# Altium footprint library con-molex-micro-fit-3_0.PCBLIB: 194 footprints (part 10 of 13)
Each footprint in its own frame and in the unit in brackets; x right, y up, seen from the top. Pads: shape width x height; smd on the part's side, far side on the other; paste and mask are expansions set on the pad; w line width, h text height; cw(c..) or ccw(c..) is an arc to the next point about the centre after c.
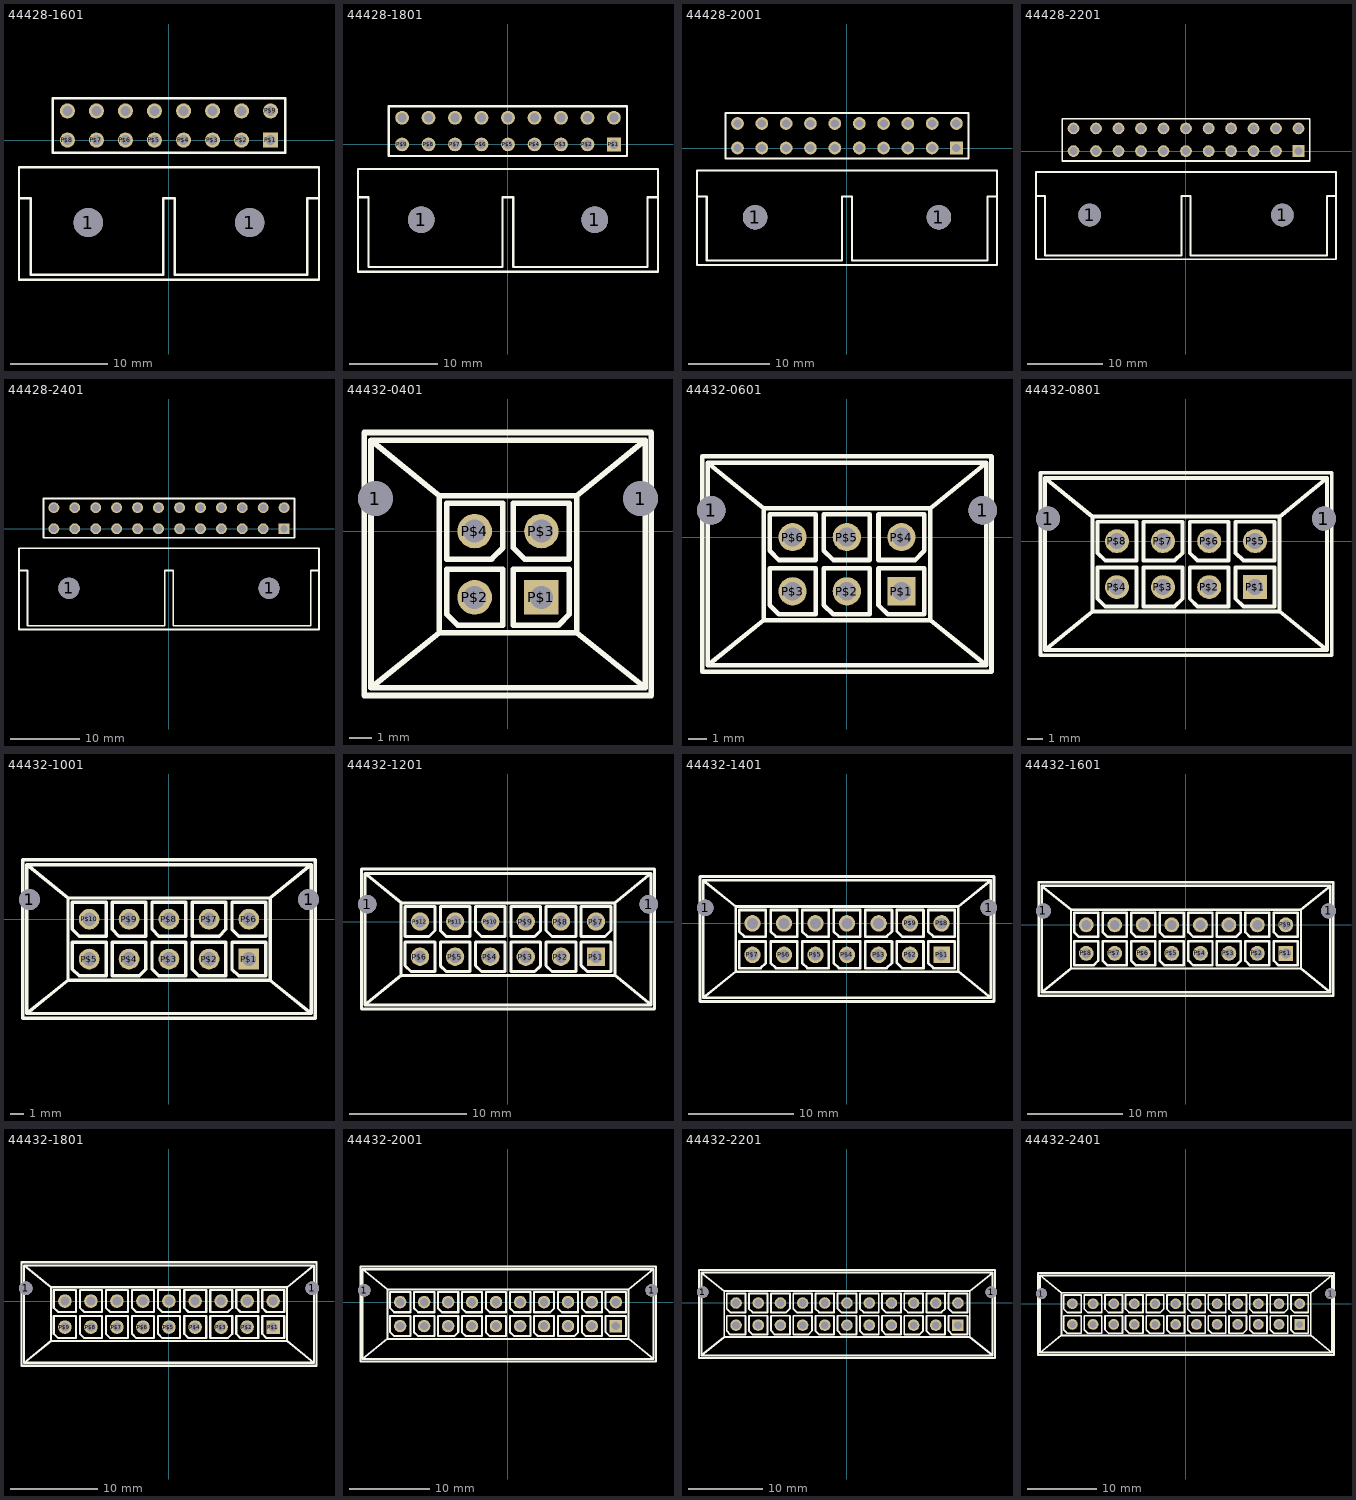
[diagram p9: the footprints below, top view; thin cyan lines are the x and y axes]

## 44428-1601 [mil]
pads (18):
  round 119 hole 119: 1(-328.35,-335.83) 1(329,-335.83)
  rect 61.5x61.5 hole 41: P$1(414,0)
  round 61.5 hole 41: P$2(296,0) P$3(178,0) P$4(60,0) P$5(-59.06,0) P$6(-177.17,0) P$7(-295.28,0) P$8(-413.39,0) P$9(414,119) P$10(296,119) P$11(178,119) P$12(60,119) P$13(-59.06,119) P$14(-177.17,119) P$15(-295.28,119) P$16(-413.39,119)
Top Overlay:
  lines w10: -610.24,-236.22 -610.24,-110.24 611,-110.24 611,-236.22 ; -610.24,-236.22 -610.24,-568.11 611,-568.11 611,-236.22 ; -610.24,-236.22 -562.99,-236.22 -562.99,-547.24 -23.62,-547.24 -23.62,-236.22 24,-236.22 24,-547.24 563,-547.24 563,-236.22 611,-236.22 ; -472.44,-51.18 473,-51.18 473,170 -472.44,170 -472.44,-51.18

## 44428-1801 [mil]
pads (20):
  round 119 hole 119: 1(-387.4,-335.83) 1(388,-335.83)
  rect 61.5x61.5 hole 41: P$1(473,0)
  round 61.5 hole 41: P$2(355,0) P$3(237,0) P$4(119,0) P$5(0,0) P$6(-118.11,0) P$7(-236.22,0) P$8(-354.33,0) P$9(-472.44,0) P$10(473,119) P$11(355,119) P$12(237,119) P$13(119,119) P$14(0,119) P$15(-118.11,119) P$16(-236.22,119) P$17(-354.33,119) P$18(-472.44,119)
Top Overlay:
  lines w10: -669.29,-236.22 -669.29,-110.24 670,-110.24 670,-236.22 ; -669.29,-236.22 -669.29,-568.11 670,-568.11 670,-236.22 ; -669.29,-236.22 -622.05,-236.22 -622.05,-547.24 -23.62,-547.24 -23.62,-236.22 24,-236.22 24,-547.24 623,-547.24 623,-236.22 670,-236.22 ; -531.5,-51.18 532,-51.18 532,170 -531.5,170 -531.5,-51.18

## 44428-2001 [mil]
pads (22):
  round 119 hole 119: 1(-446.46,-335.83) 1(447,-335.83)
  rect 61.5x61.5 hole 41: P$1(532,0)
  round 61.5 hole 41: P$2(414,0) P$3(296,0) P$4(178,0) P$5(60,0) P$6(-59.06,0) P$7(-177.17,0) P$8(-295.28,0) P$9(-413.39,0) P$10(-531.5,0) P$11(532,119) P$12(414,119) P$13(296,119) P$14(178,119) P$15(60,119) P$16(-59.06,119) P$17(-177.17,119) P$18(-295.28,119) P$19(-413.39,119) P$20(-531.5,119)
Top Overlay:
  lines w10: -728.35,-236.22 -728.35,-110.24 729,-110.24 729,-236.22 ; -728.35,-236.22 -728.35,-568.11 729,-568.11 729,-236.22 ; -728.35,-236.22 -681.1,-236.22 -681.1,-547.24 -23.62,-547.24 -23.62,-236.22 24,-236.22 24,-547.24 682,-547.24 682,-236.22 729,-236.22 ; -590.55,-51.18 591,-51.18 591,170 -590.55,170 -590.55,-51.18

## 44428-2201 [mil]
pads (24):
  round 119 hole 119: 1(-505.51,-335.83) 1(506,-335.83)
  rect 61.5x61.5 hole 41: P$1(591,0)
  round 61.5 hole 41: P$2(473,0) P$3(355,0) P$4(237,0) P$5(119,0) P$6(0,0) P$7(-118.11,0) P$8(-236.22,0) P$9(-354.33,0) P$10(-472.44,0) P$11(-590.55,0) P$12(591,119) P$13(473,119) P$14(355,119) P$15(237,119) P$16(119,119) P$17(0,119) P$18(-118.11,119) P$19(-236.22,119) P$20(-354.33,119) P$21(-472.44,119) P$22(-590.55,119)
Top Overlay:
  lines w10: -787.4,-236.22 -787.4,-110.24 788,-110.24 788,-236.22 ; -787.4,-236.22 -787.4,-568.11 788,-568.11 788,-236.22 ; -787.4,-236.22 -740.16,-236.22 -740.16,-547.24 -23.62,-547.24 -23.62,-236.22 24,-236.22 24,-547.24 741,-547.24 741,-236.22 788,-236.22 ; -649.61,-51.18 650,-51.18 650,170 -649.61,170 -649.61,-51.18

## 44428-2401 [mil]
pads (26):
  round 119 hole 119: 1(-564.57,-335.83) 1(565,-335.83)
  rect 61.5x61.5 hole 41: P$1(650,0)
  round 61.5 hole 41: P$2(532,0) P$3(414,0) P$4(296,0) P$5(178,0) P$6(60,0) P$7(-59.06,0) P$8(-177.17,0) P$9(-295.28,0) P$10(-413.39,0) P$11(-531.5,0) P$12(-649.61,0) P$13(650,119) P$14(532,119) P$15(414,119) P$16(296,119) P$17(178,119) P$18(60,119) P$19(-59.06,119) P$20(-177.17,119) P$21(-295.28,119) P$22(-413.39,119) P$23(-531.5,119) P$24(-649.61,119)
Top Overlay:
  lines w10: -846.46,-236.22 -846.46,-110.24 847,-110.24 847,-236.22 ; -846.46,-236.22 -846.46,-568.11 847,-568.11 847,-236.22 ; -846.46,-236.22 -799.21,-236.22 -799.21,-547.24 -23.62,-547.24 -23.62,-236.22 24,-236.22 24,-547.24 800,-547.24 800,-236.22 847,-236.22 ; -708.66,-51.18 709,-51.18 709,170 -708.66,170 -708.66,-51.18

## 44432-0401 [mil]
pads (6):
  round 62 hole 62: 1(-236.22,58) 1(237,58)
  rect 61.5x61.5 hole 41: P$1(60,-118.11)
  round 61.5 hole 41: P$2(-59.06,-118.11) P$3(60,0) P$4(-59.06,0)
Top Overlay:
  lines w10: -244.09,-279.53 245,-279.53 ; -244.09,-279.53 -244.09,162 ; -244.09,-279.53 -122.05,-181.1 ; -244.09,162 245,162 ; -244.09,162 -122.05,63 ; -122.05,-181.1 -122.05,63 ; -122.05,-181.1 123,-181.1 ; -122.05,63 123,63 ; 123,-181.1 123,63 ; 123,-181.1 245,-279.53 ; 123,63 245,162 ; 245,-279.53 245,162 ; -255.91,-293.31 256,-293.31 256,176 -255.91,176 -255.91,-293.31 ; -109.06,-148.11 -109.06,-68.11 -9.06,-68.11 -9.06,-168.11 -89.06,-168.11 -109.06,-148.11 ; -109.06,-50 -109.06,50 -9.06,50 -9.06,-30 -29.06,-50 -109.06,-50 ; 10,-168.11 10,-68.11 110,-68.11 110,-148.11 90,-168.11 10,-168.11 ; 10,-30 10,50 110,50 110,-50 30,-50 10,-30

## 44432-0601 [mil]
pads (8):
  round 62 hole 62: 1(-295.28,58) 1(296,58)
  rect 61.5x61.5 hole 41: P$1(119,-118.11)
  round 61.5 hole 41: P$2(0,-118.11) P$3(-118.11,-118.11) P$4(119,0) P$5(0,0) P$6(-118.11,0)
Top Overlay:
  lines w10: -303.15,-279.53 304,-279.53 ; -303.15,-279.53 -303.15,162 ; -303.15,-279.53 -181.1,-181.1 ; -303.15,162 304,162 ; -303.15,162 -181.1,63 ; -181.1,-181.1 -181.1,63 ; -181.1,-181.1 182,-181.1 ; -181.1,63 182,63 ; 182,-181.1 182,63 ; 182,-181.1 304,-279.53 ; 182,63 304,162 ; 304,-279.53 304,162 ; -314.96,-293.31 315,-293.31 315,176 -314.96,176 -314.96,-293.31 ; -168.11,-148.11 -168.11,-68.11 -68.11,-68.11 -68.11,-168.11 -148.11,-168.11 -168.11,-148.11 ; -168.11,-30 -168.11,50 -68.11,50 -68.11,-50 -148.11,-50 -168.11,-30 ; -50,-148.11 -50,-68.11 50,-68.11 50,-168.11 -30,-168.11 -50,-148.11 ; -50,-30 -50,50 50,50 50,-50 -30,-50 -50,-30 ; 69,-148.11 69,-68.11 169,-68.11 169,-168.11 89,-168.11 69,-148.11 ; 69,-50 69,50 169,50 169,-30 149,-50 69,-50

## 44432-0801 [mil]
pads (10):
  round 62 hole 62: 1(-354.33,58) 1(355,58)
  rect 61.5x61.5 hole 41: P$1(178,-118.11)
  round 61.5 hole 41: P$2(60,-118.11) P$3(-59.06,-118.11) P$4(-177.17,-118.11) P$5(178,0) P$6(60,0) P$7(-59.06,0) P$8(-177.17,0)
Top Overlay:
  lines w10: -362.2,-279.53 363,-279.53 ; -362.2,-279.53 -362.2,162 ; -362.2,-279.53 -240.16,-181.1 ; -362.2,162 363,162 ; -362.2,162 -240.16,63 ; -240.16,-181.1 -240.16,63 ; -240.16,-181.1 241,-181.1 ; -240.16,63 241,63 ; 241,-181.1 241,63 ; 241,-181.1 363,-279.53 ; 241,63 363,162 ; 363,-279.53 363,162 ; -374.02,-293.31 375,-293.31 375,176 -374.02,176 -374.02,-293.31 ; -227.17,-148.11 -227.17,-68.11 -127.17,-68.11 -127.17,-168.11 -207.17,-168.11 -227.17,-148.11 ; -227.17,-30 -227.17,50 -127.17,50 -127.17,-50 -207.17,-50 -227.17,-30 ; -109.06,-168.11 -109.06,-68.11 -9.06,-68.11 -9.06,-148.11 -29.06,-168.11 -109.06,-168.11 ; -109.06,-50 -109.06,50 -9.06,50 -9.06,-30 -29.06,-50 -109.06,-50 ; 10,-148.11 10,-68.11 110,-68.11 110,-168.11 30,-168.11 10,-148.11 ; 10,-30 10,50 110,50 110,-50 30,-50 10,-30 ; 128,-148.11 128,-68.11 228,-68.11 228,-168.11 148,-168.11 128,-148.11 ; 128,-30 128,50 228,50 228,-50 148,-50 128,-30

## 44432-1001 [mil]
pads (12):
  round 62 hole 62: 1(-413.39,58) 1(414,58)
  rect 61.5x61.5 hole 41: P$1(237,-118.11)
  round 61.5 hole 41: P$2(119,-118.11) P$3(0,-118.11) P$4(-118.11,-118.11) P$5(-236.22,-118.11) P$6(237,0) P$7(119,0) P$8(0,0) P$9(-118.11,0) P$10(-236.22,0)
Top Overlay:
  lines w10: -421.26,-279.53 422,-279.53 ; -421.26,-279.53 -421.26,162 ; -421.26,-279.53 -299.21,-181.1 ; -421.26,162 422,162 ; -421.26,162 -299.21,63 ; -299.21,-181.1 -299.21,63 ; -299.21,-181.1 300,-181.1 ; -299.21,63 300,63 ; 300,-181.1 300,63 ; 300,-181.1 422,-279.53 ; 300,63 422,162 ; 422,-279.53 422,162 ; -433.07,-293.31 434,-293.31 434,176 -433.07,176 -433.07,-293.31 ; -286.22,-148.11 -286.22,-68.11 -186.22,-68.11 -186.22,-168.11 -266.22,-168.11 -286.22,-148.11 ; -286.22,-30 -286.22,50 -186.22,50 -186.22,-50 -266.22,-50 -286.22,-30 ; -168.11,-168.11 -168.11,-68.11 -68.11,-68.11 -68.11,-148.11 -88.11,-168.11 -168.11,-168.11 ; -168.11,-30 -168.11,50 -68.11,50 -68.11,-50 -148.11,-50 -168.11,-30 ; -50,-148.11 -50,-68.11 50,-68.11 50,-168.11 -30,-168.11 -50,-148.11 ; -50,-30 -50,50 50,50 50,-50 -30,-50 -50,-30 ; 69,-148.11 69,-68.11 169,-68.11 169,-168.11 89,-168.11 69,-148.11 ; 69,-50 69,50 169,50 169,-30 149,-50 69,-50 ; 187,-148.11 187,-68.11 287,-68.11 287,-168.11 207,-168.11 187,-148.11 ; 187,-30 187,50 287,50 287,-50 207,-50 187,-30

## 44432-1201 [mil]
pads (14):
  round 62 hole 62: 1(-472.44,58) 1(473,58)
  rect 61.5x61.5 hole 41: P$1(296,-118.11)
  round 61.5 hole 41: P$2(178,-118.11) P$3(60,-118.11) P$4(-59.06,-118.11) P$5(-177.17,-118.11) P$6(-295.28,-118.11) P$7(296,0) P$8(178,0) P$9(60,0) P$10(-59.06,0) P$11(-177.17,0) P$12(-295.28,0)
Top Overlay:
  lines w10: -480.31,-279.53 481,-279.53 ; -480.31,-279.53 -480.31,162 ; -480.31,-279.53 -358.27,-181.1 ; -480.31,162 481,162 ; -480.31,162 -358.27,63 ; -358.27,-181.1 -358.27,63 ; -358.27,-181.1 359,-181.1 ; -358.27,63 359,63 ; 359,-181.1 359,63 ; 359,-181.1 481,-279.53 ; 359,63 481,162 ; 481,-279.53 481,162 ; -492.13,-293.31 493,-293.31 493,176 -492.13,176 -492.13,-293.31 ; -345.28,-148.11 -345.28,-68.11 -245.28,-68.11 -245.28,-168.11 -325.28,-168.11 -345.28,-148.11 ; -345.28,-50 -345.28,50 -245.28,50 -245.28,-30 -265.28,-50 -345.28,-50 ; -227.17,-148.11 -227.17,-68.11 -127.17,-68.11 -127.17,-168.11 -207.17,-168.11 -227.17,-148.11 ; -227.17,-30 -227.17,50 -127.17,50 -127.17,-50 -207.17,-50 -227.17,-30 ; -109.06,-148.11 -109.06,-68.11 -9.06,-68.11 -9.06,-168.11 -89.06,-168.11 -109.06,-148.11 ; -109.06,-30 -109.06,50 -9.06,50 -9.06,-50 -89.06,-50 -109.06,-30 ; 10,-168.11 10,-68.11 110,-68.11 110,-148.11 90,-168.11 10,-168.11 ; 10,-50 10,50 110,50 110,-30 90,-50 10,-50 ; 128,-148.11 128,-68.11 228,-68.11 228,-168.11 148,-168.11 128,-148.11 ; 128,-30 128,50 228,50 228,-50 148,-50 128,-30 ; 246,-148.11 246,-68.11 346,-68.11 346,-168.11 266,-168.11 246,-148.11 ; 246,-50 246,50 346,50 346,-30 326,-50 246,-50

## 44432-1401 [mil]
pads (16):
  round 62 hole 62: 1(-531.5,58) 1(532,58)
  rect 61.5x61.5 hole 41: P$1(355,-118.11)
  round 61.5 hole 41: P$2(237,-118.11) P$3(119,-118.11) P$4(0,-118.11) P$5(-118.11,-118.11) P$6(-236.22,-118.11) P$7(-354.33,-118.11) P$8(355,0) P$9(237,0) P$10(119,0) P$11(0,0) P$12(-118.11,0) P$13(-236.22,0) P$14(-354.33,0)
Top Overlay:
  lines w10: -539.37,-279.53 540,-279.53 ; -539.37,-279.53 -539.37,162 ; -539.37,-279.53 -417.32,-181.1 ; -539.37,162 540,162 ; -539.37,162 -417.32,63 ; -417.32,-181.1 -417.32,63 ; -417.32,-181.1 418,-181.1 ; -417.32,63 418,63 ; 418,-181.1 418,63 ; 418,-181.1 540,-279.53 ; 418,63 540,162 ; 540,-279.53 540,162 ; -551.18,-293.31 552,-293.31 552,176 -551.18,176 -551.18,-293.31 ; -404.33,-168.11 -404.33,-68.11 -304.33,-68.11 -304.33,-148.11 -324.33,-168.11 -404.33,-168.11 ; -404.33,-30 -404.33,50 -304.33,50 -304.33,-50 -384.33,-50 -404.33,-30 ; -286.22,-148.11 -286.22,-68.11 -186.22,-68.11 -186.22,-168.11 -266.22,-168.11 -286.22,-148.11 ; -286.22,-30 -286.22,50 -186.22,50 -186.22,-50 -266.22,-50 -286.22,-30 ; -168.11,-148.11 -168.11,-68.11 -68.11,-68.11 -68.11,-168.11 -148.11,-168.11 -168.11,-148.11 ; -168.11,-30 -168.11,50 -68.11,50 -68.11,-50 -148.11,-50 -168.11,-30 ; -50,-148.11 -50,-68.11 50,-68.11 50,-168.11 -30,-168.11 -50,-148.11 ; -50,-30 -50,50 50,50 50,-50 -30,-50 -50,-30 ; 69,-168.11 69,-68.11 169,-68.11 169,-148.11 149,-168.11 69,-168.11 ; 69,-50 69,50 169,50 169,-30 149,-50 69,-50 ; 187,-148.11 187,-68.11 287,-68.11 287,-168.11 207,-168.11 187,-148.11 ; 187,-30 187,50 287,50 287,-50 207,-50 187,-30 ; 305,-148.11 305,-68.11 405,-68.11 405,-168.11 325,-168.11 305,-148.11 ; 305,-30 305,50 405,50 405,-50 325,-50 305,-30

## 44432-1601 [mil]
pads (18):
  round 62 hole 62: 1(-590.55,58) 1(591,58)
  rect 61.5x61.5 hole 41: P$1(414,-118.11)
  round 61.5 hole 41: P$2(296,-118.11) P$3(178,-118.11) P$4(60,-118.11) P$5(-59.06,-118.11) P$6(-177.17,-118.11) P$7(-295.28,-118.11) P$8(-413.39,-118.11) P$9(414,0) P$10(296,0) P$11(178,0) P$12(60,0) P$13(-59.06,0) P$14(-177.17,0) P$15(-295.28,0) P$16(-413.39,0)
Top Overlay:
  lines w10: -598.43,-279.53 599,-279.53 ; -598.43,-279.53 -598.43,162 ; -598.43,-279.53 -476.38,-181.1 ; -598.43,162 599,162 ; -598.43,162 -476.38,63 ; -476.38,-181.1 -476.38,63 ; -476.38,-181.1 477,-181.1 ; -476.38,63 477,63 ; 477,-181.1 477,63 ; 477,-181.1 599,-279.53 ; 477,63 599,162 ; 599,-279.53 599,162 ; -610.24,-293.31 611,-293.31 611,176 -610.24,176 -610.24,-293.31 ; -463.39,-168.11 -463.39,-68.11 -363.39,-68.11 -363.39,-148.11 -383.39,-168.11 -463.39,-168.11 ; -463.39,-30 -463.39,50 -363.39,50 -363.39,-50 -443.39,-50 -463.39,-30 ; -345.28,-148.11 -345.28,-68.11 -245.28,-68.11 -245.28,-168.11 -325.28,-168.11 -345.28,-148.11 ; -345.28,-30 -345.28,50 -245.28,50 -245.28,-50 -325.28,-50 -345.28,-30 ; -227.17,-148.11 -227.17,-68.11 -127.17,-68.11 -127.17,-168.11 -207.17,-168.11 -227.17,-148.11 ; -227.17,-30 -227.17,50 -127.17,50 -127.17,-50 -207.17,-50 -227.17,-30 ; -109.06,-148.11 -109.06,-68.11 -9.06,-68.11 -9.06,-168.11 -89.06,-168.11 -109.06,-148.11 ; -109.06,-30 -109.06,50 -9.06,50 -9.06,-50 -89.06,-50 -109.06,-30 ; 10,-148.11 10,-68.11 110,-68.11 110,-168.11 30,-168.11 10,-148.11 ; 10,-30 10,50 110,50 110,-50 30,-50 10,-30 ; 128,-168.11 128,-68.11 228,-68.11 228,-148.11 208,-168.11 128,-168.11 ; 128,-50 128,50 228,50 228,-30 208,-50 128,-50 ; 246,-148.11 246,-68.11 346,-68.11 346,-168.11 266,-168.11 246,-148.11 ; 246,-30 246,50 346,50 346,-50 266,-50 246,-30 ; 364,-148.11 364,-68.11 464,-68.11 464,-168.11 384,-168.11 364,-148.11 ; 364,-30 364,50 464,50 464,-50 384,-50 364,-30

## 44432-1801 [mil]
pads (20):
  round 62 hole 62: 1(-649.61,58) 1(650,58)
  rect 61.5x61.5 hole 41: P$1(473,-118.11)
  round 61.5 hole 41: P$2(355,-118.11) P$3(237,-118.11) P$4(119,-118.11) P$5(0,-118.11) P$6(-118.11,-118.11) P$7(-236.22,-118.11) P$8(-354.33,-118.11) P$9(-472.44,-118.11) P$10(473,0) P$11(355,0) P$12(237,0) P$13(119,0) P$14(0,0) P$15(-118.11,0) P$16(-236.22,0) P$17(-354.33,0) P$18(-472.44,0)
Top Overlay:
  lines w10: -657.48,-279.53 658,-279.53 ; -657.48,-279.53 -657.48,162 ; -657.48,-279.53 -535.43,-181.1 ; -657.48,162 658,162 ; -657.48,162 -535.43,63 ; -535.43,-181.1 -535.43,63 ; -535.43,-181.1 536,-181.1 ; -535.43,63 536,63 ; 536,-181.1 536,63 ; 536,-181.1 658,-279.53 ; 536,63 658,162 ; 658,-279.53 658,162 ; -669.29,-293.31 670,-293.31 670,176 -669.29,176 -669.29,-293.31 ; -522.44,-148.11 -522.44,-68.11 -422.44,-68.11 -422.44,-168.11 -502.44,-168.11 -522.44,-148.11 ; -522.44,-30 -522.44,50 -422.44,50 -422.44,-50 -502.44,-50 -522.44,-30 ; -404.33,-148.11 -404.33,-68.11 -304.33,-68.11 -304.33,-168.11 -384.33,-168.11 -404.33,-148.11 ; -404.33,-30 -404.33,50 -304.33,50 -304.33,-50 -384.33,-50 -404.33,-30 ; -286.22,-148.11 -286.22,-68.11 -186.22,-68.11 -186.22,-168.11 -266.22,-168.11 -286.22,-148.11 ; -286.22,-30 -286.22,50 -186.22,50 -186.22,-50 -266.22,-50 -286.22,-30 ; -168.11,-148.11 -168.11,-68.11 -68.11,-68.11 -68.11,-168.11 -148.11,-168.11 -168.11,-148.11 ; -168.11,-30 -168.11,50 -68.11,50 -68.11,-50 -148.11,-50 -168.11,-30 ; -50,-148.11 -50,-68.11 50,-68.11 50,-168.11 -30,-168.11 -50,-148.11 ; -50,-30 -50,50 50,50 50,-50 -30,-50 -50,-30 ; 69,-148.11 69,-68.11 169,-68.11 169,-168.11 89,-168.11 69,-148.11 ; 69,-30 69,50 169,50 169,-50 89,-50 69,-30 ; 187,-168.11 187,-68.11 287,-68.11 287,-148.11 267,-168.11 187,-168.11 ; 187,-50 187,50 287,50 287,-30 267,-50 187,-50 ; 305,-148.11 305,-68.11 405,-68.11 405,-168.11 325,-168.11 305,-148.11 ; 305,-30 305,50 405,50 405,-50 325,-50 305,-30 ; 423,-148.11 423,-68.11 523,-68.11 523,-168.11 443,-168.11 423,-148.11 ; 423,-30 423,50 523,50 523,-50 443,-50 423,-30

## 44432-2001 [mil]
pads (22):
  round 62 hole 62: 1(-708.66,58) 1(709,58)
  rect 61.5x61.5 hole 41: P$1(532,-118.11)
  round 61.5 hole 41: P$2(414,-118.11) P$3(296,-118.11) P$4(178,-118.11) P$5(60,-118.11) P$6(-59.06,-118.11) P$7(-177.17,-118.11) P$8(-295.28,-118.11) P$9(-413.39,-118.11) P$10(-531.5,-118.11) P$11(532,0) P$12(414,0) P$13(296,0) P$14(178,0) P$15(60,0) P$16(-59.06,0) P$17(-177.17,0) P$18(-295.28,0) P$19(-413.39,0) P$20(-531.5,0)
Top Overlay:
  lines w10: -716.54,-279.53 717,-279.53 ; -716.54,-279.53 -716.54,162 ; -716.54,-279.53 -594.49,-181.1 ; -716.54,162 717,162 ; -716.54,162 -594.49,63 ; -594.49,-181.1 -594.49,63 ; -594.49,-181.1 595,-181.1 ; -594.49,63 595,63 ; 595,-181.1 595,63 ; 595,-181.1 717,-279.53 ; 595,63 717,162 ; 717,-279.53 717,162 ; -728.35,-293.31 729,-293.31 729,176 -728.35,176 -728.35,-293.31 ; -581.5,-148.11 -581.5,-68.11 -481.5,-68.11 -481.5,-168.11 -561.5,-168.11 -581.5,-148.11 ; -581.5,-30 -581.5,50 -481.5,50 -481.5,-50 -561.5,-50 -581.5,-30 ; -463.39,-148.11 -463.39,-68.11 -363.39,-68.11 -363.39,-168.11 -443.39,-168.11 -463.39,-148.11 ; -463.39,-30 -463.39,50 -363.39,50 -363.39,-50 -443.39,-50 -463.39,-30 ; -345.28,-168.11 -345.28,-68.11 -245.28,-68.11 -245.28,-148.11 -265.28,-168.11 -345.28,-168.11 ; -345.28,-30 -345.28,50 -245.28,50 -245.28,-50 -325.28,-50 -345.28,-30 ; -227.17,-148.11 -227.17,-68.11 -127.17,-68.11 -127.17,-168.11 -207.17,-168.11 -227.17,-148.11 ; -227.17,-30 -227.17,50 -127.17,50 -127.17,-50 -207.17,-50 -227.17,-30 ; -109.06,-148.11 -109.06,-68.11 -9.06,-68.11 -9.06,-168.11 -89.06,-168.11 -109.06,-148.11 ; -109.06,-30 -109.06,50 -9.06,50 -9.06,-50 -89.06,-50 -109.06,-30 ; 10,-148.11 10,-68.11 110,-68.11 110,-168.11 30,-168.11 10,-148.11 ; 10,-30 10,50 110,50 110,-50 30,-50 10,-30 ; 128,-148.11 128,-68.11 228,-68.11 228,-168.11 148,-168.11 128,-148.11 ; 128,-50 128,50 228,50 228,-30 208,-50 128,-50 ; 246,-168.11 246,-68.11 346,-68.11 346,-148.11 326,-168.11 246,-168.11 ; 246,-30 246,50 346,50 346,-50 266,-50 246,-30 ; 364,-148.11 364,-68.11 464,-68.11 464,-168.11 384,-168.11 364,-148.11 ; 364,-30 364,50 464,50 464,-50 384,-50 364,-30 ; 482,-148.11 482,-68.11 582,-68.11 582,-168.11 502,-168.11 482,-148.11 ; 482,-30 482,50 582,50 582,-50 502,-50 482,-30

## 44432-2201 [mil]
pads (24):
  round 62 hole 62: 1(-767.72,58) 1(768,58)
  rect 61.5x61.5 hole 41: P$1(591,-118.11)
  round 61.5 hole 41: P$2(473,-118.11) P$3(355,-118.11) P$4(237,-118.11) P$5(119,-118.11) P$6(0,-118.11) P$7(-118.11,-118.11) P$8(-236.22,-118.11) P$9(-354.33,-118.11) P$10(-472.44,-118.11) P$11(-590.55,-118.11) P$12(591,0) P$13(473,0) P$14(355,0) P$15(237,0) P$16(119,0) P$17(0,0) P$18(-118.11,0) P$19(-236.22,0) P$20(-354.33,0) P$21(-472.44,0) P$22(-590.55,0)
Top Overlay:
  lines w10: -775.59,-279.53 776,-279.53 ; -775.59,-279.53 -775.59,162 ; -775.59,-279.53 -653.54,-181.1 ; -775.59,162 776,162 ; -775.59,162 -653.54,63 ; -653.54,-181.1 -653.54,63 ; -653.54,-181.1 654,-181.1 ; -653.54,63 654,63 ; 654,-181.1 654,63 ; 654,-181.1 776,-279.53 ; 654,63 776,162 ; 776,-279.53 776,162 ; -787.4,-293.31 788,-293.31 788,176 -787.4,176 -787.4,-293.31 ; -640.55,-148.11 -640.55,-68.11 -540.55,-68.11 -540.55,-168.11 -620.55,-168.11 -640.55,-148.11 ; -640.55,-30 -640.55,50 -540.55,50 -540.55,-50 -620.55,-50 -640.55,-30 ; -522.44,-148.11 -522.44,-68.11 -422.44,-68.11 -422.44,-168.11 -502.44,-168.11 -522.44,-148.11 ; -522.44,-30 -522.44,50 -422.44,50 -422.44,-50 -502.44,-50 -522.44,-30 ; -404.33,-148.11 -404.33,-68.11 -304.33,-68.11 -304.33,-168.11 -384.33,-168.11 -404.33,-148.11 ; -404.33,-50 -404.33,50 -304.33,50 -304.33,-30 -324.33,-50 -404.33,-50 ; -286.22,-168.11 -286.22,-68.11 -186.22,-68.11 -186.22,-148.11 -206.22,-168.11 -286.22,-168.11 ; -286.22,-30 -286.22,50 -186.22,50 -186.22,-50 -266.22,-50 -286.22,-30 ; -168.11,-148.11 -168.11,-68.11 -68.11,-68.11 -68.11,-168.11 -148.11,-168.11 -168.11,-148.11 ; -168.11,-30 -168.11,50 -68.11,50 -68.11,-50 -148.11,-50 -168.11,-30 ; -50,-148.11 -50,-68.11 50,-68.11 50,-168.11 -30,-168.11 -50,-148.11 ; -50,-30 -50,50 50,50 50,-50 -30,-50 -50,-30 ; 69,-148.11 69,-68.11 169,-68.11 169,-168.11 89,-168.11 69,-148.11 ; 69,-30 69,50 169,50 169,-50 89,-50 69,-30 ; 187,-148.11 187,-68.11 287,-68.11 287,-168.11 207,-168.11 187,-148.11 ; 187,-30 187,50 287,50 287,-50 207,-50 187,-30 ; 305,-168.11 305,-68.11 405,-68.11 405,-148.11 385,-168.11 305,-168.11 ; 305,-30 305,50 405,50 405,-50 325,-50 305,-30 ; 423,-148.11 423,-68.11 523,-68.11 523,-168.11 443,-168.11 423,-148.11 ; 423,-50 423,50 523,50 523,-30 503,-50 423,-50 ; 541,-148.11 541,-68.11 641,-68.11 641,-168.11 561,-168.11 541,-148.11 ; 541,-30 541,50 641,50 641,-50 561,-50 541,-30

## 44432-2401 [mil]
pads (26):
  round 62 hole 62: 1(-826.77,58) 1(827,58)
  rect 61.5x61.5 hole 41: P$1(650,-118.11)
  round 61.5 hole 41: P$2(532,-118.11) P$3(414,-118.11) P$4(296,-118.11) P$5(178,-118.11) P$6(60,-118.11) P$7(-59.06,-118.11) P$8(-177.17,-118.11) P$9(-295.28,-118.11) P$10(-413.39,-118.11) P$11(-531.5,-118.11) P$12(-649.61,-118.11) P$13(650,0) P$14(532,0) P$15(414,0) P$16(296,0) P$17(178,0) P$18(60,0) P$19(-59.06,0) P$20(-177.17,0) P$21(-295.28,0) P$22(-413.39,0) P$23(-531.5,0) P$24(-649.61,0)
Top Overlay:
  lines w10: -834.65,-279.53 835,-279.53 ; -834.65,-279.53 -834.65,162 ; -834.65,-279.53 -712.6,-181.1 ; -834.65,162 835,162 ; -834.65,162 -712.6,63 ; -712.6,-181.1 -712.6,63 ; -712.6,-181.1 713,-181.1 ; -712.6,63 713,63 ; 713,-181.1 713,63 ; 713,-181.1 835,-279.53 ; 713,63 835,162 ; 835,-279.53 835,162 ; -846.46,-293.31 847,-293.31 847,176 -846.46,176 -846.46,-293.31 ; -699.61,-148.11 -699.61,-68.11 -599.61,-68.11 -599.61,-168.11 -679.61,-168.11 -699.61,-148.11 ; -699.61,-30 -699.61,50 -599.61,50 -599.61,-50 -679.61,-50 -699.61,-30 ; -581.5,-148.11 -581.5,-68.11 -481.5,-68.11 -481.5,-168.11 -561.5,-168.11 -581.5,-148.11 ; -581.5,-30 -581.5,50 -481.5,50 -481.5,-50 -561.5,-50 -581.5,-30 ; -463.39,-148.11 -463.39,-68.11 -363.39,-68.11 -363.39,-168.11 -443.39,-168.11 -463.39,-148.11 ; -463.39,-30 -463.39,50 -363.39,50 -363.39,-50 -443.39,-50 -463.39,-30 ; -345.28,-148.11 -345.28,-68.11 -245.28,-68.11 -245.28,-168.11 -325.28,-168.11 -345.28,-148.11 ; -345.28,-30 -345.28,50 -245.28,50 -245.28,-50 -325.28,-50 -345.28,-30 ; -227.17,-148.11 -227.17,-68.11 -127.17,-68.11 -127.17,-168.11 -207.17,-168.11 -227.17,-148.11 ; -227.17,-50 -227.17,50 -127.17,50 -127.17,-30 -147.17,-50 -227.17,-50 ; -109.06,-148.11 -109.06,-68.11 -9.06,-68.11 -9.06,-168.11 -89.06,-168.11 -109.06,-148.11 ; -109.06,-30 -109.06,50 -9.06,50 -9.06,-50 -89.06,-50 -109.06,-30 ; 10,-148.11 10,-68.11 110,-68.11 110,-168.11 30,-168.11 10,-148.11 ; 10,-30 10,50 110,50 110,-50 30,-50 10,-30 ; 128,-148.11 128,-68.11 228,-68.11 228,-168.11 148,-168.11 128,-148.11 ; 128,-30 128,50 228,50 228,-50 148,-50 128,-30 ; 246,-168.11 246,-68.11 346,-68.11 346,-148.11 326,-168.11 246,-168.11 ; 246,-30 246,50 346,50 346,-50 266,-50 246,-30 ; 364,-148.11 364,-68.11 464,-68.11 464,-168.11 384,-168.11 364,-148.11 ; 364,-30 364,50 464,50 464,-50 384,-50 364,-30 ; 482,-148.11 482,-68.11 582,-68.11 582,-168.11 502,-168.11 482,-148.11 ; 482,-50 482,50 582,50 582,-30 562,-50 482,-50 ; 600,-148.11 600,-68.11 700,-68.11 700,-168.11 620,-168.11 600,-148.11 ; 600,-30 600,50 700,50 700,-50 620,-50 600,-30